# EAGLE library part 5537ВВ025 (library transceivers)
АЕНВ.431230.176 ТУ 5537ВВ025 - 4-канальный приемник с LVDS-интерфейсом. Скорость передачи - до 400 Мбит/с. Производитель: ОАО «НИИЭТ», г. Воронеж
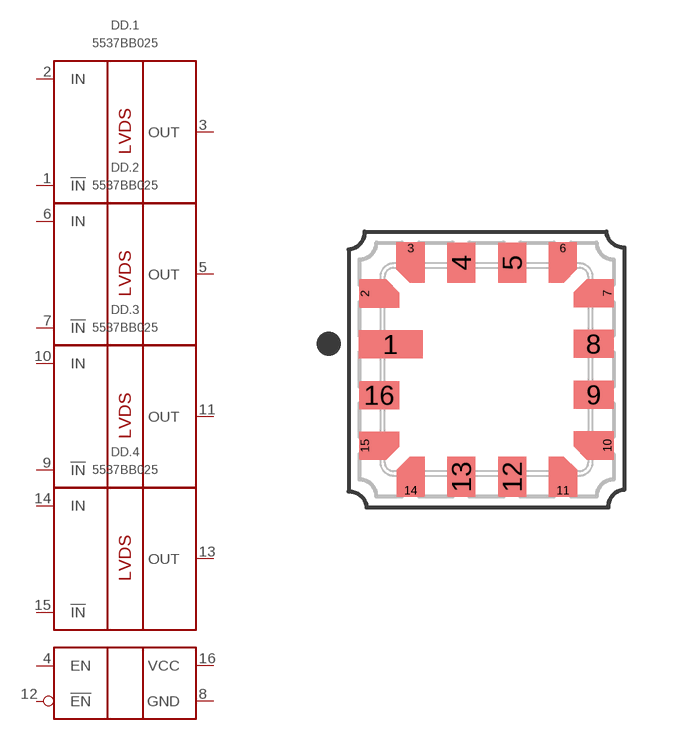
[diagram p5: symbol with the pads of QLCC-16/16-1; footprint QLCC-16/16-1]

Designator prefix DD; gates .1=5537ВВ025 .2=5537ВВ025 .3=5537ВВ025 .4=5537ВВ025 .PWR=LVDS_PWR

## 5537ВВ025  [QLCC-16/16-1]
1  .1:!IN  in
2  .1:IN  in
3  .1:OUT  out
4  .PWR:EN  in
5  .2:OUT  out
6  .2:IN  in
7  .2:!IN  in
8  .PWR:GND  pwr
9  .3:!IN  in
10  .3:IN  in
11  .3:OUT  out
12  .PWR:!EN  in
13  .4:OUT  out
14  .4:IN  in
15  .4:!IN  in
16  .PWR:VCC  pwr

## Footprint QLCC-16/16-1 (pad centres in mm)
smd 1.6 x 0.7: 1 -2.4,0.63
smd 0.3 x 0.7: 2 -3.03,1.9; 7 3.03,1.91; 10 3.03,-1.9; 15 -3.03,-1.91
smd 0.7 x 0.3: 3 -1.9,3.025; 6 1.91,3.025; 11 1.91,-3.03; 14 -1.9,-3.03
smd 0.7 x 1: 4 -0.63,2.675; 5 0.64,2.675; 12 0.64,-2.68; 13 -0.63,-2.68
smd 1 x 0.7: 8 2.68,0.64; 9 2.68,-0.63; 16 -2.68,-0.64